# Altium schematic symbol library SCH - INTERFACE - SPI - BAT20J.SCHLIB: 1 symbol
Pins are listed as number, name and electrical type; pins without a type are passive.

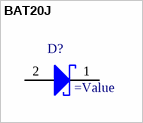
[diagram p0: symbol BAT20J]

## BAT20J
designator D?
BAT20J high efficiency switching and ultra low leakage current schottky diode
pins: 1 K, 2 A